# Altium footprint library PCB_Lib.PcbLib: 286 footprints (part 18 of 18)
Each footprint in its own frame and in the unit in brackets; x right, y up, seen from the top. Pads: shape width x height; smd on the part's side, far side on the other; paste and mask are expansions set on the pad; w line width, h text height; cw(c..) or ccw(c..) is an arc to the next point about the centre after c.
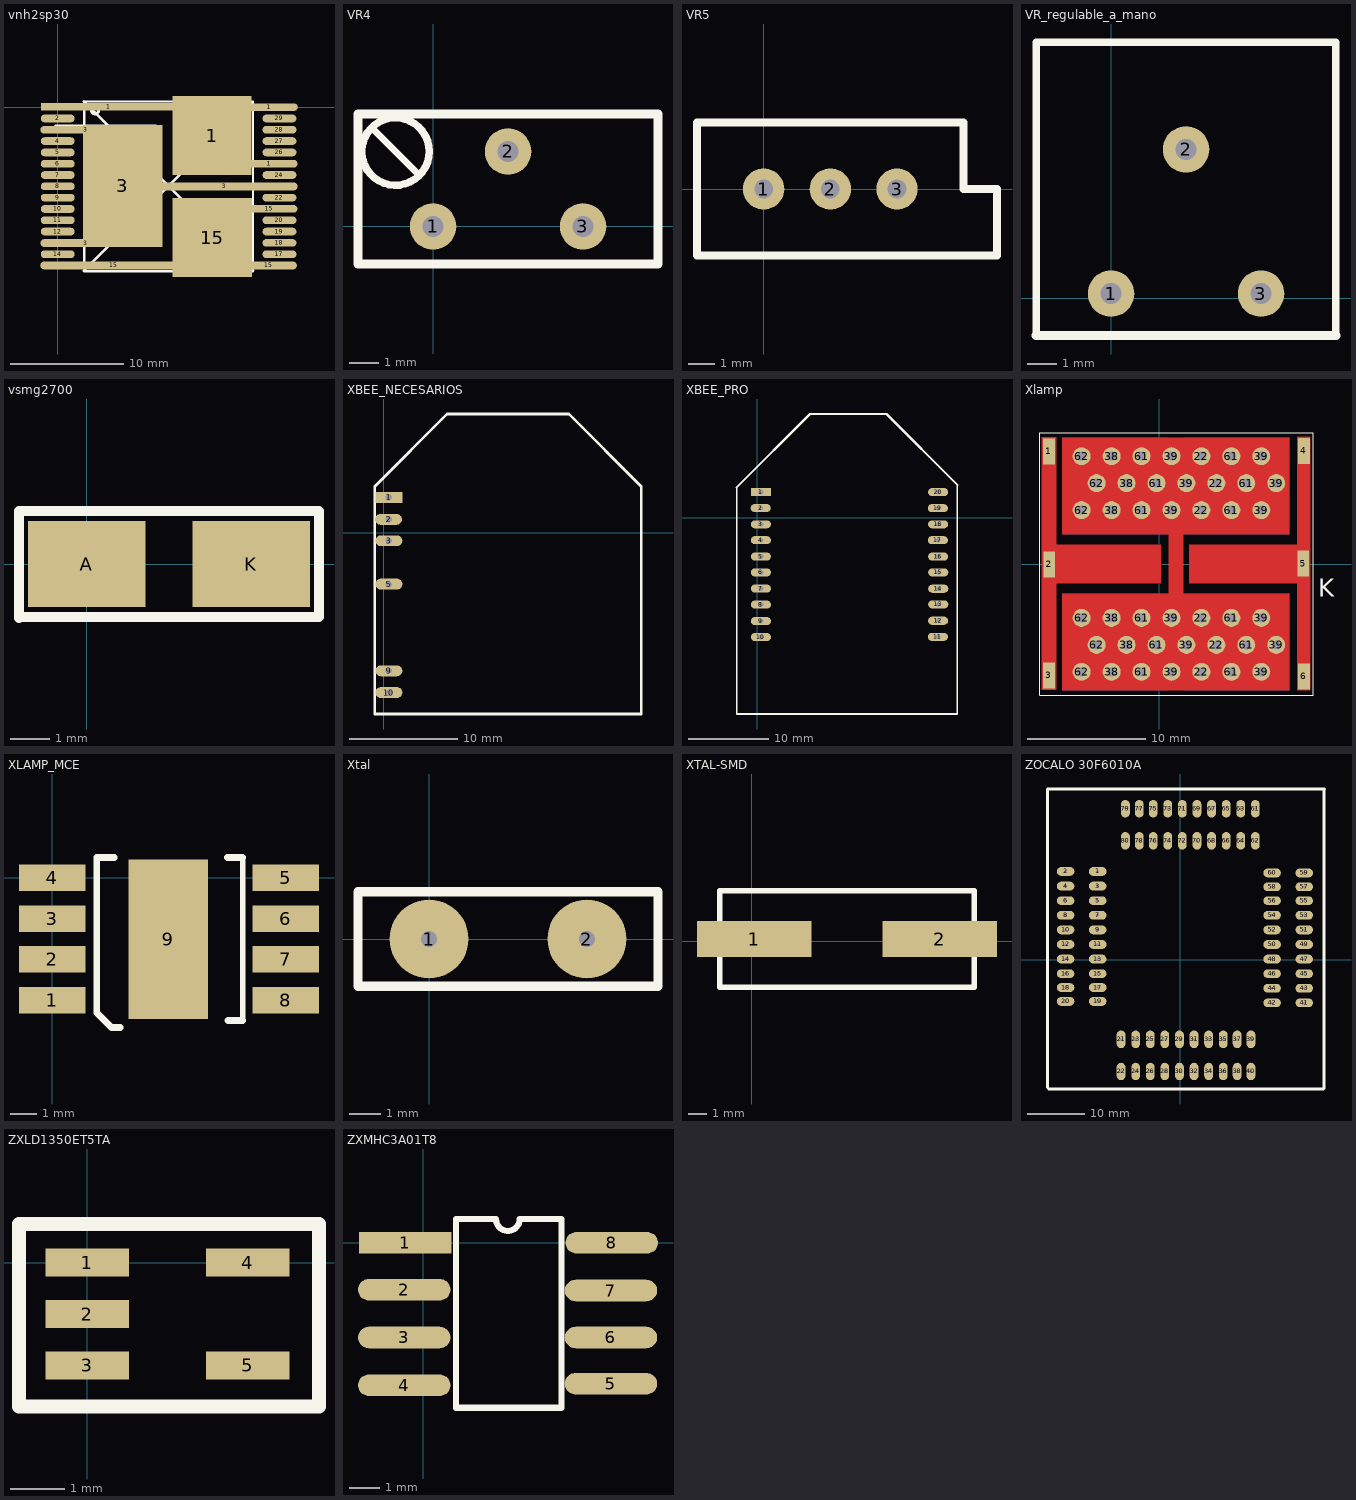
[diagram p17: the footprints below, top view; thin cyan lines are the x and y axes]

## vnh2sp30 [mm]
pads (33):
  rect 12x0.68 smd: 1(4.521,0.025)
  rect 7x7 smd: 1(13.64,-2.515) 15(13.665,-11.532)
  oval 5x0.68 smd: 1(18.694,-5.004) 1(18.72,0) 15(18.644,-13.995) 15(18.694,-8.992)
  oval 3x0.68 smd: 2(0,-1) 4(0,-3) 5(0,-4) 6(0,-5) 7(0,-6) 8(0,-7) 9(0,-8) 10(0,-9) 11(0,-10) 12(0,-11) 14(0,-13) 17(19.6,-13) 18(19.6,-12) 19(19.6,-11) 20(19.6,-10) 22(19.6,-8) 24(19.6,-6) 26(19.6,-4) 27(19.6,-3) 28(19.6,-2) 29(19.6,-1)
  oval 8x0.68 smd: 3(2.464,-12.014) 3(2.464,-2.007)
  rect 7x10.8 smd: 3(5.74,-6.96)
  oval 13x0.68 smd: 3(14.707,-7.01) 15(4.953,-13.995)
Top Overlay:
  circle w0.254: c3.302,-0.279 r0.318
  lines w0.2: 2.335,-14.5 17.265,-14.5 17.265,0.5 10.05,0.5 ccw(c9.8,-3.346) 9.55,0.5 2.335,0.5 2.335,-14.5
  lines w0.254: -0.203,-1.651 8.687,-1.651 ; 2.335,-14.5 2.335,-14.43 17.221,0.456 ; 2.335,0.5 17.265,-14.43

## VR4 [mil]
pads (3):
  round 62 hole 28: 1(0,0) 2(100,100) 3(200,0)
Top Overlay:
  circle w10: c-50,100 r45
  lines w10: -80,130 -20,70
  lines w12: -100,-50 300,-50 300,150 200,150 -100,150 -100,-50

## VR5 [mil]
pads (3):
  round 62 hole 28: 1(0,0) 2(100,0) 3(200,0)
Top Overlay:
  lines w12: -100,-100 350,-100 350,0 300,0 300,100 -100,100 -100,-100

## VR_regulable_a_mano [mil]
pads (3):
  round 62 hole 28: 1(0,5.91) 2(100,198.23) 3(200,5.91)
Top Overlay:
  lines w10: -100,-50 -100,340.94 300,340.94 300,-50
  lines w12: -100,-50 300,-50

## vsmg2700 [mm]
pads (2):
  rect 3x2.2 smd: A(0,0) K(4.2,0)
Top Overlay:
  lines w0.254: -1.725,-1.375 -1.725,1.35 5.925,1.35 5.925,-1.35 -1.725,-1.35

## XBEE_NECESARIOS [mm]
pads (6):
  rect 2.5x1 hole 0.6: 1(0.483,3.251)
  oval 2.5x1 hole 0.6: 2(0.458,1.225) 3(0.483,-0.75) 5(0.483,-4.752) 9(0.483,-12.755) 10(0.483,-14.756)
Top Overlay:
  lines w0.254: 23.778,-16.739 -0.813,-16.739 -0.813,4.264 5.871,10.947 11.557,10.947 17.094,10.947 23.778,4.264 23.778,-16.688

## XBEE_PRO [mm]
pads (20):
  rect 2.5x1 hole 0.6: 1(0.483,3.2)
  oval 2.5x1 hole 0.6: 2(0.458,1.225) 3(0.483,-0.8) 4(0.483,-2.775) 5(0.483,-4.8) 6(0.483,-6.775) 7(0.483,-8.775) 8(0.483,-10.775) 9(0.483,-12.825) 10(0.483,-14.8) 11(22.458,-14.775) 12(22.483,-12.775) 13(22.508,-10.75) 14(22.508,-8.8) 15(22.508,-6.775) 16(22.483,-4.8) 17(22.458,-2.775) 18(22.483,-0.8) 19(22.458,1.2) 20(22.483,3.2)
Top Overlay:
  lines w0.2: -2.54,3.785 -2.54,-24.359 24.892,-24.359 24.892,4.089
  lines w0.254: -2.54,3.785 6.576,12.901 16.08,12.901 24.892,4.089

## Xlamp [mil]
pads (48):
  rect 39.37x86.61 smd: 1(-369.09,375.98) 2(-368.11,-0.98) 3(-369.09,-372.05) 4(482.28,377.95) 5(480.31,0.98) 6(482.28,-375)
  round 60 hole 30: 22(140,-360) 22(140,-180) 22(140,180) 22(140,360) 22(190,-270) 22(190,270) 38(-160,-360) 38(-160,-180) 38(-160,180) 38(-160,360) 38(-110,-270) 38(-110,270) 39(40,-360) 39(40,-180) 39(40,180) 39(40,360) 39(90,-270) 39(90,270) 39(340,-360) 39(340,-180) 39(340,180) 39(340,360) 39(390,-270) 39(390,270) 61(-60,-360) 61(-60,-180) 61(-60,180) 61(-60,360) 61(-10,-270) 61(-10,270) 61(240,-360) 61(240,-180) 61(240,180) 61(240,360) 61(290,-270) 61(290,270) 62(-260,-360) 62(-260,-180) 62(-260,180) 62(-260,360) 62(-210,-270) 62(-210,270)
Top Layer:
  rectangle: 99.41,-64.96 478.35,64.96
  rectangle: -368.11,-64.96 4.92,64.96
  rectangle: 459.65,-422 505,425
  rectangle: -394,-420 -344.49,424
  rectangle: -324.8,-423.23 435,-98.42
  rectangle: -324.8,97.77 435,422.57
  rectangle: 29.53,-130 80.71,108
Bottom Layer:
  rectangle: 80.71,-423.23 435.04,-98.43
  rectangle: 80.71,98.43 435.04,423.23
  rectangle: -324.8,98.43 29.53,423.23
  rectangle: -324.8,-423.23 29.53,-98.43
Top Overlay:
  lines w3.94: -400,-437.99 -400,-16.14 -400,437.99 54.13,437.99 513,437.99 513,20.87 513,-437.99 54.13,-437.99 -400,-437.99
  text "K" at 529.53,-109.25 h60
Bottom Overlay:
  lines w5: -39.37,-24.61 -29.53,-24.61 -29.53,-78.74 137.8,-78.74 137.8,-24.61 162.4,-24.61 162.4,24.61 137.8,24.61 137.8,78.74 -29.53,78.74 -29.53,24.61 -39.37,24.61 -39.37,6.89 -39.37,-24.61
  text "K" at 195.87,39.37 h60
Top Paste:
  rectangle: 29.53,-68.9 80.71,68.9
  rectangle: -53.15,-64.96 9.84,72.83
  rectangle: 97.44,-70.87 160.43,66.93
Top Solder:
  rectangle: 29.53,-130 80.71,108
  rectangle: 100.39,-69.88 158.46,69.88
  rectangle: -55.12,-69.88 9.84,71.85
  rectangle: -324.8,98.43 435,423.23
  rectangle: -324.8,-423.23 435,-98.43
Bottom Solder:
  rectangle: 28.54,-68.9 79.72,68.9
  rectangle: -325,98 435,423
  rectangle: -324,-424 436,-99

## XLAMP_MCE [mm]
pads (9):
  rect 2.5x1 smd: 1(0,-4.611) 2(0,-3.074) 3(0,-1.537) 4(0,0) 5(8.81,0) 6(8.81,-1.537) 7(8.81,-3.074) 8(8.81,-4.611)
  rect 3x6 smd: 9(4.369,-2.315)
Top Overlay:
  lines w0.2: 7.188,-5.379 7.188,0.768
  lines w0.254: 1.676,-5.055 1.676,-5.08 ; 2.343,0.768 1.676,0.768 1.676,-5.08 ; 2.565,-5.639 2.235,-5.639 2.007,-5.41 ; 6.598,0.768 7.188,0.768 ; 6.629,-5.379 7.188,-5.379 ; 1.676,-5.08 2.007,-5.41 ; 1.676,-5.08 2.007,-5.41

## Xtal [mil] "Cristal"
pads (2):
  round 100 hole 20: 1(0,0) 2(200,0)
Top Overlay:
  lines w12: -90,-60 290,-60 290,60 -90,60 -90,-60

## XTAL-SMD [mil]
pads (2):
  rect 250x78.74 smd: 1(5,5) 2(410,5)
Top Overlay:
  lines w12: -70,-100 -70,110 205,110 485,110 485,-100 -70,-100

## ZOCALO 30F6010A [mil]
pads (80):
  oval 120x60 hole 20: 1(-565,605) 2(-785,605) 3(-565,505) 4(-785,505) 5(-565,405) 6(-785,405) 7(-565,305) 8(-785,305) 9(-565,205) 10(-785,205) 11(-565,105) 12(-785,105) 13(-565,5) 14(-785,5) 15(-565,-95) 16(-785,-95) 17(-565,-190) 18(-785,-190) 19(-565,-285) 20(-785,-285) 41(850,-295) 42(630,-295) 43(850,-195) 44(630,-195) 45(850,-95) 46(630,-95) 47(850,5) 48(630,5) 49(850,105) 50(630,105) 51(850,205) 52(630,205) 53(850,305) 54(630,305) 55(850,405) 56(630,405) 57(850,500) 58(630,500) 59(850,595) 60(630,595)
  oval 60x120 hole 20: 21(-405,-545) 22(-405,-765) 23(-305,-545) 24(-305,-765) 25(-205,-545) 26(-205,-765) 27(-105,-545) 28(-105,-765) 29(-5,-545) 30(-5,-765) 31(95,-545) 32(95,-765) 33(195,-545) 34(195,-765) 35(295,-545) 36(295,-765) 37(390,-545) 38(390,-765) 39(485,-545) 40(485,-765) 61(515,1035) 62(515,815) 63(415,1035) 64(415,815) 65(315,1035) 66(315,815) 67(215,1035) 68(215,815) 69(115,1035) 70(115,815) 71(15,1035) 72(15,815) 73(-85,1035) 74(-85,815) 75(-185,1035) 76(-185,815) 77(-280,1035) 78(-280,815) 79(-375,1035) 80(-375,815)
Top Overlay:
  lines w20: -910,-875 -910,1170 990,1170 ; -900,-885 980,-885 ; 985,-880 985,1165

## ZXLD1350ET5TA [mil]
pads (5):
  rect 60x20 smd: 1(0,0) 2(0,-37) 3(0,-74) 4(115,0) 5(115,-74)
Top Overlay:
  lines w10: -49.21,-103.35 166.34,-103.35 166.34,27.56 -49.21,27.56 -49.21,-103.35

## ZXMHC3A01T8 [mm]
pads (8):
  rect 3x0.7 smd: 1(-0.584,0)
  oval 3x0.7 smd: 2(-0.61,-1.524) 3(-0.61,-3.073) 4(-0.61,-4.623) 5(6.096,-4.572) 6(6.096,-3.073) 7(6.096,-1.549) 8(6.121,0)
Top Overlay:
  lines w0.2: 1.067,-5.355 1.067,0.765 2.368,0.765 ccw(c2.75,0.765) 3.132,0.765 4.496,0.765 4.496,-5.355 1.067,-5.355